# EAGLE library part ATA6561 (library JetsonProj)
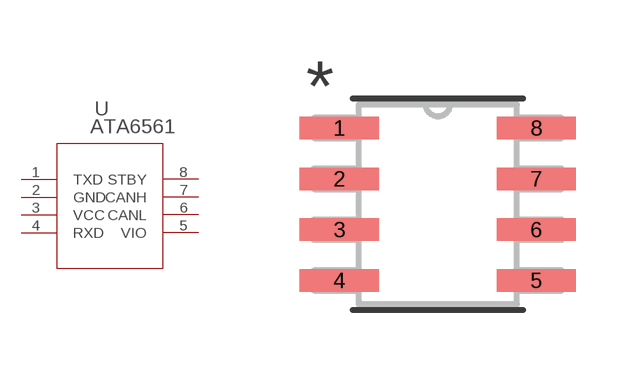
[diagram p8: symbol with the pads of SO8; footprint SO8]

Designator prefix -

## ATA6561  [SO8]
1  TXD  pwr
2  GND  in
3  VCC  in
4  RXD  in
5  VIO  pas
6  CANL  out
7  CANH  out
8  STBY  pas

## Footprint SO8 (pad centres in mm)
smd 1.981 x 0.559: 1 -2.464,1.905; 2 -2.464,0.635; 3 -2.464,-0.635; 4 -2.464,-1.905; 5 2.464,-1.905; 6 2.464,-0.635; 7 2.464,0.635; 8 2.464,1.905